# Altium footprint library WE-LQSA.PcbLib: 3 footprints
Each footprint in its own frame and in the unit in brackets; x right, y up, seen from the top. Pads: shape width x height; smd on the part's side, far side on the other; paste and mask are expansions set on the pad; w line width, h text height; cw(c..) or ccw(c..) is an arc to the next point about the centre after c.
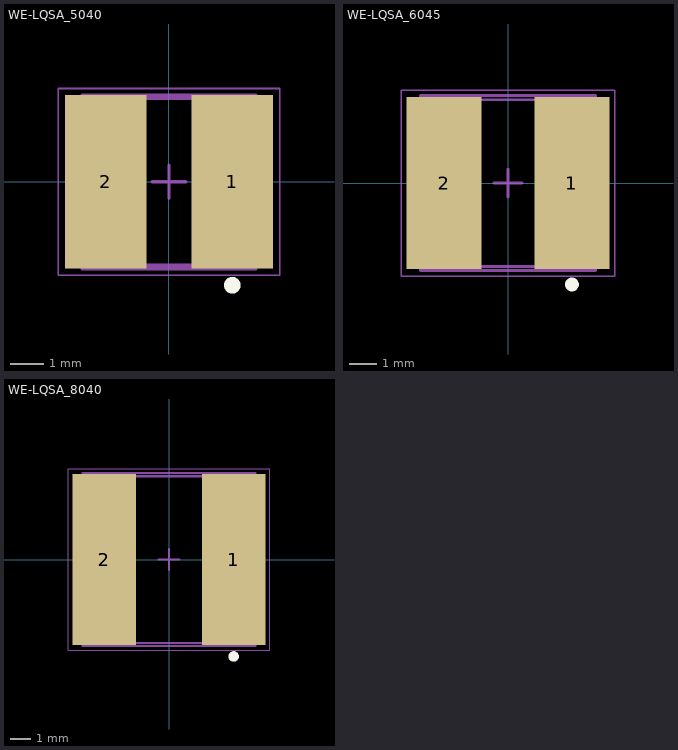
[diagram p0: the footprints below, top view; thin cyan lines are the x and y axes]

## WE-LQSA_5040 [mm] "SMD Power Inductor, body 5.00 x 5.00 mm"
height 4
pads (2):
  rect 2.45x5.2 smd: 1(1.9,0) 2(-1.9,0)
Top Overlay:
  circle w0.25: c1.9,-3.1 r0.125
Top Assembly:
  circle w0.1: c1.7,-1.7 r0.3
  lines w0.1: -2.6,-2.6 -2.6,2.6 2.6,2.6 2.6,-2.6 -2.6,-2.6
Top Designator:
  text ".Designator" at -3.647,-0.357 h1
Top 3D Body:
  circle w0.1: c1.7,-1.7 r0.3
  lines w0.1: -2.5,-2.5 -2.5,2.5 2.5,2.5 2.5,-2.5 -2.5,-2.5
Top Courtyard:
  lines w0.05: -3.325,-2.8 -3.325,2.8 3.325,2.8 3.325,-2.8 -3.325,-2.8
Top Component Center:
  lines w0.1: -0.5,0 0.5,0 ; 0,-0.5 0,0.5
3D body "78404054xxx_5040.stp": height 3.72, standoff 0.02, extent -2.505,-2.5 2.505,2.5

## WE-LQSA_6045 [mm] "SMD Power Inductor, body 6.00 x 6.00 mm"
height 4.6
pads (2):
  rect 2.7x6.2 smd: 1(2.3,0) 2(-2.3,0)
Top Overlay:
  circle w0.25: c2.3,-3.65 r0.125
Top Assembly:
  circle w0.1: c2.2,-2.2 r0.3
  lines w0.1: -3.15,-3.15 3.15,-3.15 3.15,3.15 -3.15,3.15 -3.15,-3.15
Top Designator:
  text ".Designator" at -3.647,-0.357 h1
Top 3D Body:
  circle w0.1: c2.2,-2.2 r0.3
  lines w0.1: -3,-3 3,-3 3,3 -3,3 -3,-3
Top Courtyard:
  lines w0.05: -3.85,-3.35 3.85,-3.35 3.85,3.35 -3.85,3.35 -3.85,-3.35
Top Component Center:
  lines w0.1: -0.5,0 0.5,0 ; 0,-0.5 0,0.5
3D body "78404064xxx_6045.stp": height 4.35, standoff 0.05, extent -3.01,-3 3.01,3

## WE-LQSA_8040 [mm] "SMD Power Inductor, body 8.00x8.00mm"
height 4.2
pads (2):
  rect 3.05x8.2 smd: 1(3.1,0) 2(-3.1,0)
Top Overlay:
  circle w0.25: c3.1,-4.65 r0.125
Top Assembly:
  circle w0.1: c3.2,-3.2 r0.4
  lines w0.1: -4.15,-4.15 -4.15,4.15 4.15,4.15 4.15,-4.15 -4.15,-4.15
Top Designator:
  text ".Designator" at -3.647,-0.357 h1
Top 3D Body:
  circle w0.1: c3.2,-3.2 r0.4
  lines w0.1: -4,-4 -4,4 4,4 4,-4 -4,-4
Top Courtyard:
  lines w0.05: -4.825,-4.35 -4.825,4.35 4.825,4.35 4.825,-4.35 -4.825,-4.35
Top Component Center:
  lines w0.1: -0.5,0 0.5,0 ; 0,-0.5 0,0.5
3D body "78404084xxx_8040.stp": height 3.95, standoff 0.05, extent -4.005,-4 4.005,4